# EAGLE library part LT3652 (library linear-technology)
BATTERY CHARGER Power Tracking 2A for Solar Power
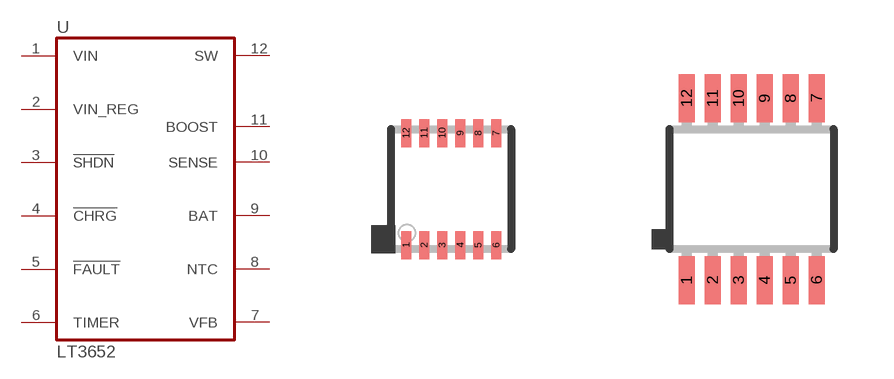
[diagram p35: symbol with the pads of DFN12-3X3; footprints DFN12-3X3, MSOP12-MSE]

Designator prefix U

## LT3652-DD  [DFN12-3X3]
1  VIN  in
2  VIN_REG  in
3  !SHDN!  in
4  !CHRG!  oc
5  !FAULT!  oc
6  TIMER  in
7  VFB  in
8  NTC  in
9  BAT  out
10  SENSE  in
11  BOOST  in
12  SW  in

## LT3652-MSE  [MSOP12-MSE]
Pads as for DFN12-3X3

## Footprint DFN12-3X3 (pad centres in mm)
DFN 3x3mm, 12 lead
smd 0.25 x 0.7: 1 -1.125,-1.4; 2 -0.675,-1.4; 3 -0.225,-1.4; 4 0.225,-1.4; 5 0.675,-1.4; 6 1.125,-1.4; 7 1.125,1.4; 8 0.675,1.4; 9 0.225,1.4; 10 -0.225,1.4; 11 -0.675,1.4; 12 -1.125,1.4

## Footprint MSOP12-MSE (pad centres in mm)
MSOP12-MSE
smd 0.4 x 1.2: 1 -1.625,-2.275; 2 -0.975,-2.275; 3 -0.325,-2.275; 4 0.325,-2.275; 5 0.975,-2.275; 6 1.625,-2.275; 7 1.625,2.275; 8 0.975,2.275; 9 0.325,2.275; 10 -0.325,2.275; 11 -0.975,2.275; 12 -1.625,2.275